# Altium schematic symbol library STM32智能储物柜.SchLib: 11 symbols
Pins are listed as number, name and electrical type; pins without a type are passive.

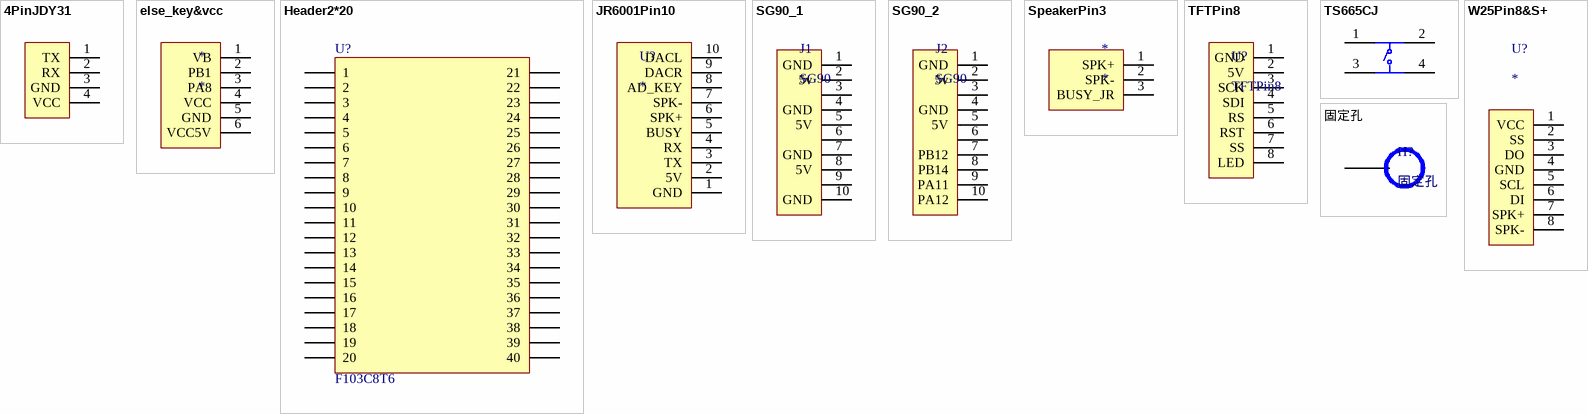
[diagram p0: symbols 4PinJDY31 to 固定孔]

## 4PinJDY31
designator U?  (value not drawn)
JDY31
footprint 4Pin (jdy31)
pins: 1 TX, 2 RX, 3 GND, 4 VCC

## else_key&vcc
designator *
footprint else2*3Pin (其余IO&VCC)
pins: 1 VB, 2 PB1, 3 PA8, 4 VCC, 5 GND, 6 VCC5V

## Header2*20
designator U?, comment F103C8T6
主控电路; LatestRevisionDate: 17-Jul-2002; LatestRevisionNote: Re-released for DXP Platform.; Publisher: Altium Limited
footprint HDR2X20 (主控电路)
pins: 1, 2, 3, 4, 5, 6, 7, 8, 9, 10, 11, 12, 13, 14, 15, 16, 17, 18, 19, 20, 21, 22, 23, 24, 25, 26, 27, 28, 29, 30, 31, 32, 33, 34, 35, 36, 37, 38, 39, 40

## JR6001Pin10
designator U?
语音
footprint JR6001Pin10 (JR6001语音)
pins: 1 GND, 2 5V, 3 TX, 4 RX, 5 BUSY, 6 SPK+, 7 SPK-, 8 AD_KEY, 9 DACR, 10 DACL

## SG90_1
designator J1, comment SG90
舵机
footprint SG90*3+1 (舵机*3)
pins: 1 GND, 2 5v, 3, 4 GND, 5 5V, 6, 7 GND, 8 5V, 9, 10 GND

## SG90_2
designator J2, comment SG90
舵机
footprint SG90*2+4 (舵机*2)
pins: 1 GND, 2 5v, 3, 4 GND, 5 5V, 6, 7 PB12, 8 PB14, 9 PA11, 10 PA12

## SpeakerPin3
designator *
喇叭
footprint SpeakerPin3 (喇叭Pin3)
pins: 1 SPK+, 2 SPK-, 3 BUSY_JR

## TFTPin8
designator U?
TFT液晶屏
footprint TFTPin8 (TFT1_44液晶屏)
pins: 1 GND, 2 5V, 3 SCK, 4 SDI, 5 RS, 6 RST, 7 SS, 8 LED

## TS665CJ
designator K?  (value not drawn)
矩阵按键
footprint SW-TH_4P-L6.0-W6.0-P4.50-LS6.5 (矩阵键盘)
pins: 1, 2, 3, 4

## W25Pin8&S+
designator U?
FLASH
footprint W25Pin8&S+ (W25Q64)
pins: 1 VCC, 2 SS, 3 DO, 4 GND, 5 SCL, 6 DI, 7 SPK+, 8 SPK-

## 固定孔
designator H?
footprint 铜柱孔
pins: 11